# EAGLE library part ALD1107 (library xess)
Quad MOS FET
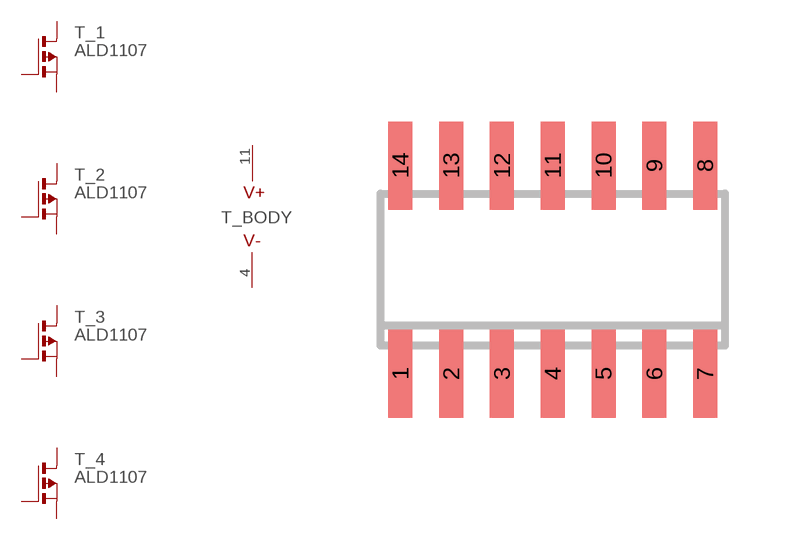
[diagram p106: symbol with the pads of SO14; footprint SO14]

Designator prefix T; gates _1=PMOS _2=PMOS _3=PMOS _4=PMOS _BODY=BIAS_MOSFET_BODY

## ALD1107  [SO14]
1  _1:D  pas
2  _1:G  pas
3  _1:S  pas
4  _BODY:VBODY-  pas
5  _4:D  pas
6  _4:G  pas
7  _4:S  pas
8  _3:S  pas
9  _3:G  pas
10  _3:D  pas
11  _BODY:VBODY+  pas
12  _2:S  pas
13  _2:G  pas
14  _2:D  pas

## Footprint SO14 (pad centres in mm)
SMALL OUTLINE INTEGRATED CIRCUIT body 3.9 mm/JEDEC MS-012AC
smd 0.6 x 2.2: 1 -3.81,-2.6; 2 -2.54,-2.6; 3 -1.27,-2.6; 4 0,-2.6; 5 1.27,-2.6; 6 2.54,-2.6; 7 3.81,-2.6; 8 3.81,2.6; 9 2.54,2.6; 10 1.27,2.6; 11 0,2.6; 12 -1.27,2.6; 13 -2.54,2.6; 14 -3.81,2.6